# EAGLE library part BMX160 (library bmx160)
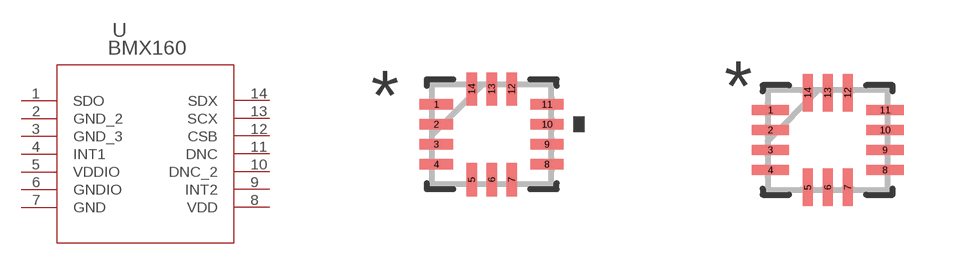
[diagram p0: symbol with the pads of BMX160_BOS; footprints BMX160_BOS, BMX160_BOS-M]

Designator prefix U

## BMX160 (DIGIKEY: 828-1087-1-ND)  [BMX160_BOS]
1  SDO  pas
2  GND_2  pas
3  GND_3  pas
4  INT1  pas
5  VDDIO  pas
6  GNDIO  pas
7  GND  pas
8  VDD  pas
9  INT2  pas
10  DNC_2  pas
11  DNC  pas
12  CSB  pas
13  SCX  pas
14  SDX  pas

## BMX160BMX160_BOS-M (DIGIKEY: 828-1087-1-ND)  [BMX160_BOS-M]
Pads as for BMX160_BOS

## BMX160BMX160_BOS-L  [BMX160_BOS-L]
Pads as for BMX160_BOS

## Footprint BMX160_BOS (pad centres in mm)
smd 0.833 x 0.255: 1 -1.383,0.75; 2 -1.383,0.25; 3 -1.383,-0.25; 4 -1.383,-0.75; 8 1.383,-0.75; 9 1.383,-0.25; 10 1.383,0.25; 11 1.383,0.75
smd 0.255 x 0.833: 5 -0.5,-1.133; 6 0,-1.133; 7 0.5,-1.133; 12 0.5,1.133; 13 0,1.133; 14 -0.5,1.133

## Footprint BMX160_BOS-M (pad centres in mm)
smd 0.933 x 0.255: 1 -1.433,0.75; 2 -1.433,0.25; 3 -1.433,-0.25; 4 -1.433,-0.75; 8 1.433,-0.75; 9 1.433,-0.25; 10 1.433,0.25; 11 1.433,0.75
smd 0.255 x 0.933: 5 -0.5,-1.183; 6 0,-1.183; 7 0.5,-1.183; 12 0.5,1.183; 13 0,1.183; 14 -0.5,1.183

## Footprint BMX160_BOS-L (pad centres in mm)
smd 0.733 x 0.255: 1 -1.333,0.75; 2 -1.333,0.25; 3 -1.333,-0.25; 4 -1.333,-0.75; 8 1.333,-0.75; 9 1.333,-0.25; 10 1.333,0.25; 11 1.333,0.75
smd 0.255 x 0.733: 5 -0.5,-1.083; 6 0,-1.083; 7 0.5,-1.083; 12 0.5,1.083; 13 0,1.083; 14 -0.5,1.083